# Altium integrated library ON Semi General Purpose Transistors.IntLib: 1679 symbols (part 18 of 36)
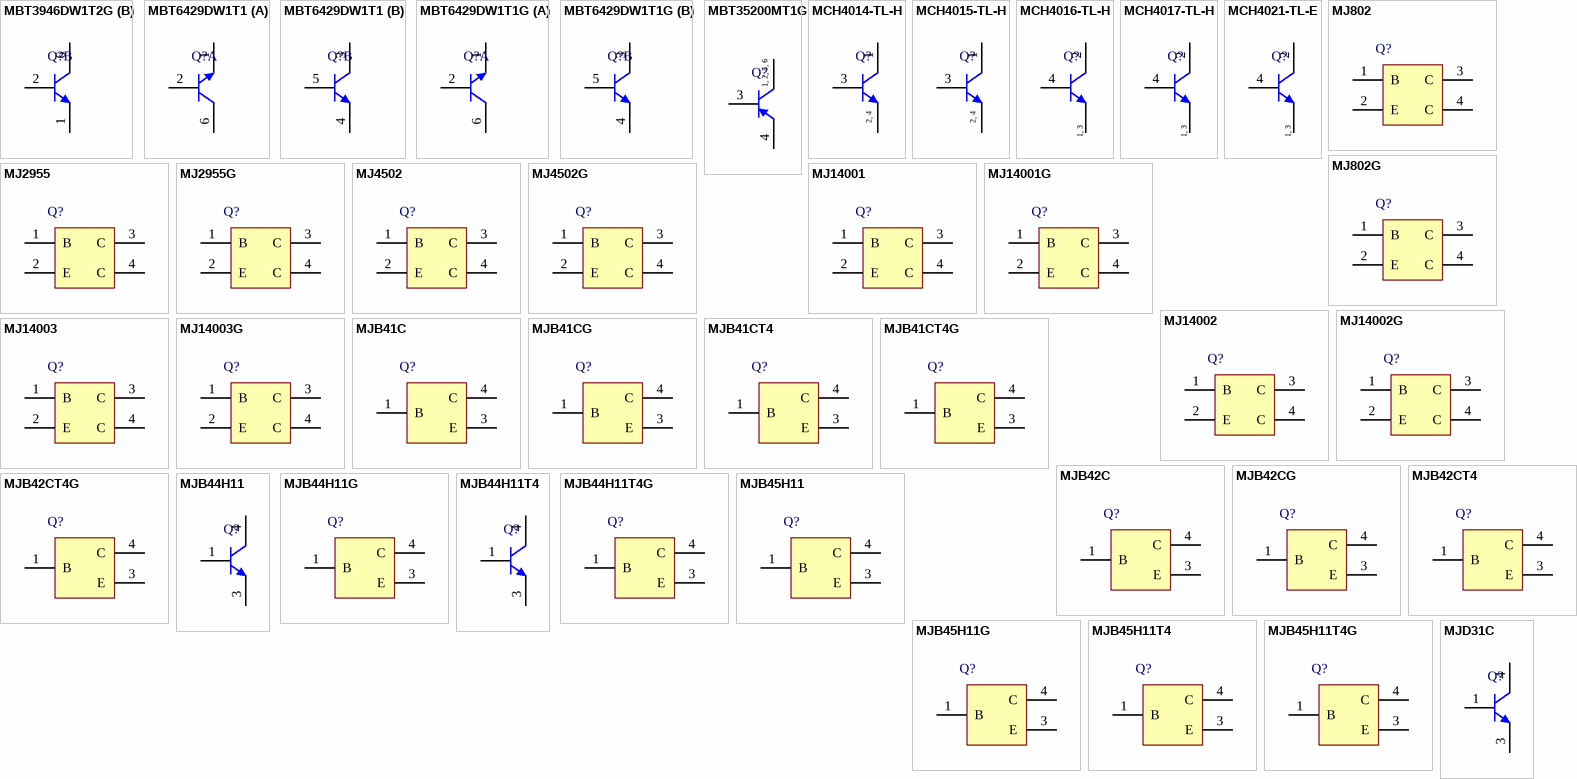
[diagram p62: symbols MBT3946DW1T2G to MJD31C]

## MCH4021-TL-E
designator Q?
RF Transistor, 8 V, 150 mA, fT=16 GHz, NPN Single, 4-Pin MCPH, Pb-Free, Tape and Reel; Manufacturer: On Semiconductor; PartNumber: MCH4021-TL-E; fT Min (MHz): 13000; IC Continuous (A): 0.15; PackageReference: MCPH-4; PackageDescription: 4-Pin Small Outline Transistor, Body 2 x 1.6 mm, Pitch 0.65 mm; Supplier 1: Digi-Key; Supplier Part Number 1: MCH4021-TL-E-ND; Supplier 2: Mouser; Supplier Part Number 2: 863-MCH4021-TL-E; Packing: Tape and Reel; Polarity: NPN; RoHS: TRUE; Mounting Technology: Surface Mount; ComponentLink1Description: Manufacturer URL; ComponentLink1URL: http://www.onsemi.com/; ComponentLink2Description: Datasheet; ComponentLink2URL: http://www.onsemi.com/pub_link/Collateral/MCH4021-D.PDF; ComponentLink3Description: Package Specification; ComponentLink3URL: http://www.onsemi.com/pub_link/Collateral/ENA0389-D.PDF
footprint ONSC-MCPH-4_V (SOT23, 4-Leads, Body 2x1.6mm, Pitch 0.65mm)
pins: 1 E, 2 C, 3 E, 4 B
text: 1, 3

## MJ802
designator Q?
High-Power NPN Silicon Transistor, 3-Pin TO-204, Tray; Manufacturer: On Semiconductor; PartNumber: MJ802; Note: 0; fT Min (MHz): 2; IC Continuous (A): 30; DatasheetVersion: Rev. 10; PackageVersion: Rev. Z, 05/1988; PackageReference: TO-204-3-1-07; PackageDescription: 2-Pin Transistor Outline, Body 39.37 x 26.67 mm, Pitch 10.92 mm; Packing: Tray; Polarity: NPN; RoHS: FALSE; Mounting Technology: Through Hole; ComponentLink1Description: Manufacturer URL; ComponentLink1URL: http://www.onsemi.com/; ComponentLink2Description: Datasheet; ComponentLink2URL: http://www.onsemi.com/pub_link/Collateral/MJ802-D.PDF; ComponentLink3Description: Package Specification; ComponentLink3URL: http://www.onsemi.com/pub_link/Collateral/1-07.PDF
footprint ONSC-TO-204-3-1-07 (TO-204, Pin Spacing 10.92mm, Lead Dia. 1.09 mm (max))
pins: 1 B, 2 E, 3 C, 4 C

## MJ802G
designator Q?
High-Power NPN Silicon Transistor, 3-Pin TO-204, Pb-Free, Tray; Manufacturer: On Semiconductor; PartNumber: MJ802G; fT Min (MHz): 2; IC Continuous (A): 30; DatasheetVersion: Rev. 10; PackageVersion: Rev. Z, 05/1988; PackageReference: TO-204-3-1-07; PackageDescription: 2-Pin Transistor Outline, Body 39.37 x 26.67 mm, Pitch 10.92 mm; Supplier 1: Digi-Key; Supplier Part Number 1: MJ802GOS-ND; Supplier 2: Farnell; Supplier Part Number 2: 1125995; Supplier 3: Newark; Supplier Part Number 3: 26K4528; Supplier 4: Mouser; Supplier Part Number 4: 863-MJ802G; Packing: Tray; Polarity: NPN; RoHS: TRUE; Mounting Technology: Through Hole; ComponentLink1Description: Manufacturer URL; ComponentLink1URL: http://www.onsemi.com/; ComponentLink2Description: Datasheet; ComponentLink2URL: http://www.onsemi.com/pub_link/Collateral/MJ802-D.PDF; ComponentLink3Description: Package Specification; ComponentLink3URL: http://www.onsemi.com/pub_link/Collateral/1-07.PDF
footprint ONSC-TO-204-3-1-07 (TO-204, Pin Spacing 10.92mm, Lead Dia. 1.09 mm (max))
pins: 1 B, 2 E, 3 C, 4 C

## MJ2955
designator Q?
Complementary Silicon Power Transistor, 3-Pin TO-204, Tray; Manufacturer: On Semiconductor; PartNumber: MJ2955; Note: 0; fT Min (MHz): 2.5; IC Continuous (A): 15; Polarity: PNP; DatasheetVersion: Rev. 6; PackageVersion: Rev. Z, 05/1988; PackageReference: TO-204-3-1-07; PackageDescription: 2-Pin Transistor Outline, Body 39.37 x 26.67 mm, Pitch 10.92 mm; Packing: Tray; RoHS: FALSE; Mounting Technology: Through Hole; ComponentLink1Description: Manufacturer URL; ComponentLink1URL: http://www.onsemi.com/; ComponentLink2Description: Datasheet; ComponentLink2URL: http://www.onsemi.com/pub_link/Collateral/2N3055-D.PDF; ComponentLink3Description: Package Specification; ComponentLink3URL: http://www.onsemi.com/pub_link/Collateral/1-07.PDF
footprint ONSC-TO-204-3-1-07 (TO-204, Pin Spacing 10.92mm, Lead Dia. 1.09 mm (max))
pins: 1 B, 2 E, 3 C, 4 C

## MJ2955G
designator Q?
Complementary Silicon Power Transistor, 3-Pin TO-204, Pb-Free, Tray; Manufacturer: On Semiconductor; PartNumber: MJ2955G; fT Min (MHz): 2.5; IC Continuous (A): 15; Polarity: PNP; DatasheetVersion: Rev. 6; PackageVersion: Rev. Z, 05/1988; PackageReference: TO-204-3-1-07; PackageDescription: 2-Pin Transistor Outline, Body 39.37 x 26.67 mm, Pitch 10.92 mm; Supplier 1: Digi-Key; Supplier Part Number 1: MJ2955GOS-ND; Supplier 2: Farnell; Supplier Part Number 2: 1125993; Supplier 3: Newark; Supplier Part Number 3: 26K4526; Supplier 4: Mouser; Supplier Part Number 4: 863-MJ2955G; Packing: Tray; RoHS: TRUE; Mounting Technology: Through Hole; ComponentLink1Description: Manufacturer URL; ComponentLink1URL: http://www.onsemi.com/; ComponentLink2Description: Datasheet; ComponentLink2URL: http://www.onsemi.com/pub_link/Collateral/2N3055-D.PDF; ComponentLink3Description: Package Specification; ComponentLink3URL: http://www.onsemi.com/pub_link/Collateral/1-07.PDF
footprint ONSC-TO-204-3-1-07 (TO-204, Pin Spacing 10.92mm, Lead Dia. 1.09 mm (max))
pins: 1 B, 2 E, 3 C, 4 C

## MJ4502
designator Q?
High-Power PNP Silicon Transistor, 3-Pin TO-204, Tray; Manufacturer: On Semiconductor; PartNumber: MJ4502; Note: 0; fT Min (MHz): 2; IC Continuous (A): 30; DatasheetVersion: Rev. 12; PackageVersion: Rev. Z, 05/1988; PackageReference: TO-204-3-1-07; PackageDescription: 2-Pin Transistor Outline, Body 39.37 x 26.67 mm, Pitch 10.92 mm; Packing: Tray; Polarity: PNP; RoHS: FALSE; Mounting Technology: Through Hole; ComponentLink1Description: Manufacturer URL; ComponentLink1URL: http://www.onsemi.com/; ComponentLink2Description: Datasheet; ComponentLink2URL: http://www.onsemi.com/pub_link/Collateral/MJ4502-D.PDF; ComponentLink3Description: Package Specification; ComponentLink3URL: http://www.onsemi.com/pub_link/Collateral/1-07.PDF
footprint ONSC-TO-204-3-1-07 (TO-204, Pin Spacing 10.92mm, Lead Dia. 1.09 mm (max))
pins: 1 B, 2 E, 3 C, 4 C

## MJ4502G
designator Q?
High-Power PNP Silicon Transistor, 3-Pin TO-204, Pb-Free, Tray; Manufacturer: On Semiconductor; PartNumber: MJ4502G; fT Min (MHz): 2; IC Continuous (A): 30; DatasheetVersion: Rev. 12; PackageVersion: Rev. Z, 05/1988; PackageReference: TO-204-3-1-07; PackageDescription: 2-Pin Transistor Outline, Body 39.37 x 26.67 mm, Pitch 10.92 mm; Supplier 1: Digi-Key; Supplier Part Number 1: MJ4502GOS-ND; Supplier 2: Newark; Supplier Part Number 2: 26K4527; Supplier 3: Mouser; Supplier Part Number 3: 863-MJ4502G; Packing: Tray; Polarity: PNP; RoHS: TRUE; Mounting Technology: Through Hole; ComponentLink1Description: Manufacturer URL; ComponentLink1URL: http://www.onsemi.com/; ComponentLink2Description: Datasheet; ComponentLink2URL: http://www.onsemi.com/pub_link/Collateral/MJ4502-D.PDF; ComponentLink3Description: Package Specification; ComponentLink3URL: http://www.onsemi.com/pub_link/Collateral/1-07.PDF
footprint ONSC-TO-204-3-1-07 (TO-204, Pin Spacing 10.92mm, Lead Dia. 1.09 mm (max))
pins: 1 B, 2 E, 3 C, 4 C

## MJ14001
designator Q?
High-Current Complementary Silicon Power Transistor, 3-Pin TO-204, Tray; Manufacturer: On Semiconductor; PartNumber: MJ14001; IC Continuous (A): 60; Polarity: PNP; DatasheetVersion: Rev. 6; PackageVersion: Rev. K, 02/2000; PackageReference: TO-204-3-197A-05; PackageDescription: 2-Pin Transistor Outline, Body 38.86 x 25.91 mm, Pitch 10.92 mm; Supplier 1: Mouser; Supplier Part Number 1: 863-MJ14001; Packing: Tray; RoHS: FALSE; Mounting Technology: Through Hole; ComponentLink1Description: Manufacturer URL; ComponentLink1URL: http://www.onsemi.com/; ComponentLink2Description: Datasheet; ComponentLink2URL: http://www.onsemi.com/pub_link/Collateral/MJ14001-D.PDF; ComponentLink3Description: Package Specification; ComponentLink3URL: http://www.onsemi.com/pub_link/Collateral/197A-05.PDF
footprint ONSC-TO-204-3-197A-05 (TO-204, Pin Spacing 10.92 mm, Lead Dia. 1.6 mm (max))
pins: 1 B, 2 E, 3 C, 4 C

## MJ14001G
designator Q?
High-Current Complementary Silicon Power Transistor, 3-Pin TO-204, Pb-Free, Tray; Manufacturer: On Semiconductor; PartNumber: MJ14001G; IC Continuous (A): 60; Polarity: PNP; DatasheetVersion: Rev. 6; PackageVersion: Rev. K, 02/2000; PackageReference: TO-204-3-197A-05; PackageDescription: 2-Pin Transistor Outline, Body 38.86 x 25.91 mm, Pitch 10.92 mm; Supplier 1: Digi-Key; Supplier Part Number 1: MJ14001G-ND; Supplier 2: Newark; Supplier Part Number 2: 42K1314; Supplier 3: Mouser; Supplier Part Number 3: 863-MJ14001G; Packing: Tray; RoHS: TRUE; Mounting Technology: Through Hole; ComponentLink1Description: Manufacturer URL; ComponentLink1URL: http://www.onsemi.com/; ComponentLink2Description: Datasheet; ComponentLink2URL: http://www.onsemi.com/pub_link/Collateral/MJ14001-D.PDF; ComponentLink3Description: Package Specification; ComponentLink3URL: http://www.onsemi.com/pub_link/Collateral/197A-05.PDF
footprint ONSC-TO-204-3-197A-05 (TO-204, Pin Spacing 10.92 mm, Lead Dia. 1.6 mm (max))
pins: 1 B, 2 E, 3 C, 4 C

## MJ14002
designator Q?
High-Current Complementary Silicon Power Transistor, 3-Pin TO-204, Tray; Manufacturer: On Semiconductor; PartNumber: MJ14002; Note: 0; IC Continuous (A): 60; Polarity: NPN; DatasheetVersion: Rev. 6; PackageVersion: Rev. K, 02/2000; PackageReference: TO-204-3-197A-05; PackageDescription: 2-Pin Transistor Outline, Body 38.86 x 25.91 mm, Pitch 10.92 mm; Packing: Tray; RoHS: FALSE; Mounting Technology: Through Hole; ComponentLink1Description: Manufacturer URL; ComponentLink1URL: http://www.onsemi.com/; ComponentLink2Description: Datasheet; ComponentLink2URL: http://www.onsemi.com/pub_link/Collateral/MJ14001-D.PDF; ComponentLink3Description: Package Specification; ComponentLink3URL: http://www.onsemi.com/pub_link/Collateral/197A-05.PDF
footprint ONSC-TO-204-3-197A-05 (TO-204, Pin Spacing 10.92 mm, Lead Dia. 1.6 mm (max))
pins: 1 B, 2 E, 3 C, 4 C

## MJ14002G
designator Q?
High-Current Complementary Silicon Power Transistor, 3-Pin TO-204, Pb-Free, Tray; Manufacturer: On Semiconductor; PartNumber: MJ14002G; IC Continuous (A): 60; Polarity: NPN; DatasheetVersion: Rev. 6; PackageVersion: Rev. K, 02/2000; PackageReference: TO-204-3-197A-05; PackageDescription: 2-Pin Transistor Outline, Body 38.86 x 25.91 mm, Pitch 10.92 mm; Supplier 1: Digi-Key; Supplier Part Number 1: MJ14002GOS-ND; Supplier 2: Newark; Supplier Part Number 2: 26K4509; Supplier 3: Mouser; Supplier Part Number 3: 863-MJ14002G; Packing: Tray; RoHS: TRUE; Mounting Technology: Through Hole; ComponentLink1Description: Manufacturer URL; ComponentLink1URL: http://www.onsemi.com/; ComponentLink2Description: Datasheet; ComponentLink2URL: http://www.onsemi.com/pub_link/Collateral/MJ14001-D.PDF; ComponentLink3Description: Package Specification; ComponentLink3URL: http://www.onsemi.com/pub_link/Collateral/197A-05.PDF
footprint ONSC-TO-204-3-197A-05 (TO-204, Pin Spacing 10.92 mm, Lead Dia. 1.6 mm (max))
pins: 1 B, 2 E, 3 C, 4 C

## MJ14003
designator Q?
High-Current Complementary Silicon Power Transistor, 3-Pin TO-204, Tray; Manufacturer: On Semiconductor; PartNumber: MJ14003; IC Continuous (A): 60; Polarity: PNP; DatasheetVersion: Rev. 6; PackageVersion: Rev. K, 02/2000; PackageReference: TO-204-3-197A-05; PackageDescription: 2-Pin Transistor Outline, Body 38.86 x 25.91 mm, Pitch 10.92 mm; Supplier 1: Mouser; Supplier Part Number 1: 863-MJ14003; Packing: Tray; RoHS: FALSE; Mounting Technology: Through Hole; ComponentLink1Description: Manufacturer URL; ComponentLink1URL: http://www.onsemi.com/; ComponentLink2Description: Datasheet; ComponentLink2URL: http://www.onsemi.com/pub_link/Collateral/MJ14001-D.PDF; ComponentLink3Description: Package Specification; ComponentLink3URL: http://www.onsemi.com/pub_link/Collateral/197A-05.PDF
footprint ONSC-TO-204-3-197A-05 (TO-204, Pin Spacing 10.92 mm, Lead Dia. 1.6 mm (max))
pins: 1 B, 2 E, 3 C, 4 C

## MJ14003G
designator Q?
High-Current Complementary Silicon Power Transistor, 3-Pin TO-204, Pb-Free, Tray; Manufacturer: On Semiconductor; PartNumber: MJ14003G; IC Continuous (A): 60; Polarity: PNP; DatasheetVersion: Rev. 6; PackageVersion: Rev. K, 02/2000; PackageReference: TO-204-3-197A-05; PackageDescription: 2-Pin Transistor Outline, Body 38.86 x 25.91 mm, Pitch 10.92 mm; Supplier 1: Mouser; Supplier Part Number 1: 863-MJ14003G; Packing: Tray; RoHS: TRUE; Mounting Technology: Through Hole; ComponentLink1Description: Manufacturer URL; ComponentLink1URL: http://www.onsemi.com/; ComponentLink2Description: Datasheet; ComponentLink2URL: http://www.onsemi.com/pub_link/Collateral/MJ14001-D.PDF; ComponentLink3Description: Package Specification; ComponentLink3URL: http://www.onsemi.com/pub_link/Collateral/197A-05.PDF
footprint ONSC-TO-204-3-197A-05 (TO-204, Pin Spacing 10.92 mm, Lead Dia. 1.6 mm (max))
pins: 1 B, 2 E, 3 C, 4 C

## MJB41C
designator Q?
Complementary Silicon Plastic Power Transistor, 3-Pin D2PAK, Tube; Manufacturer: On Semiconductor; PartNumber: MJB41C; fT Min (MHz): 3; IC Continuous (A): 6; Polarity: NPN; DatasheetVersion: Rev. 4; PackageVersion: Rev. K, 09/2008; PackageReference: D2PAK-3-418B-04; PackageDescription: 3-Pin Flange Mount, Body 9.145 x 9.97 mm, Pitch 2.54 mm; Supplier 1: Digi-Key; Supplier Part Number 1: MJB41COS-ND; Packing: Tube; RoHS: FALSE; Mounting Technology: Surface Mount; ComponentLink1Description: Manufacturer URL; ComponentLink1URL: http://www.onsemi.com/; ComponentLink2Description: Datasheet; ComponentLink2URL: http://www.onsemi.com/pub_link/Collateral/MJB41C-D.PDF; ComponentLink3Description: Package Specification; ComponentLink3URL: http://www.onsemi.com/pub_link/Collateral/418B-04.PDF
footprint ONSC-D2PAK-3-418B-04_V (DPAK, 3-Leads, Body 9.97x9.145mm, Pitch 2.54mm)
pins: 1 B, 3 E, 4 C

## MJB41CG
designator Q?
Complementary Silicon Plastic Power Transistor, 3-Pin D2PAK, Pb-Free, Tube; Manufacturer: On Semiconductor; PartNumber: MJB41CG; fT Min (MHz): 3; IC Continuous (A): 6; Polarity: NPN; DatasheetVersion: Rev. 4; PackageVersion: Rev. K, 09/2008; PackageReference: D2PAK-3-418B-04; PackageDescription: 3-Pin Flange Mount, Body 9.145 x 9.97 mm, Pitch 2.54 mm; Supplier 1: Digi-Key; Supplier Part Number 1: MJB41CGOS-ND; Supplier 2: Farnell; Supplier Part Number 2: 1705814; Supplier 3: Newark; Supplier Part Number 3: 26K4436; Supplier 4: Mouser; Supplier Part Number 4: 863-MJB41CG; Packing: Tube; RoHS: TRUE; Mounting Technology: Surface Mount; ComponentLink1Description: Manufacturer URL; ComponentLink1URL: http://www.onsemi.com/; ComponentLink2Description: Datasheet; ComponentLink2URL: http://www.onsemi.com/pub_link/Collateral/MJB41C-D.PDF; ComponentLink3Description: Package Specification; ComponentLink3URL: http://www.onsemi.com/pub_link/Collateral/418B-04.PDF
footprint ONSC-D2PAK-3-418B-04_V (DPAK, 3-Leads, Body 9.97x9.145mm, Pitch 2.54mm)
pins: 1 B, 3 E, 4 C

## MJB41CT4
designator Q?
Complementary Silicon Plastic Power Transistor, 3-Pin D2PAK, Tape and Reel; Manufacturer: On Semiconductor; PartNumber: MJB41CT4; fT Min (MHz): 3; IC Continuous (A): 6; Polarity: NPN; DatasheetVersion: Rev. 4; PackageVersion: Rev. K, 09/2008; PackageReference: D2PAK-3-418B-04; PackageDescription: 3-Pin Flange Mount, Body 9.145 x 9.97 mm, Pitch 2.54 mm; Supplier 1: Digi-Key; Supplier Part Number 1: MJB41CT4-ND; Packing: Tape and Reel; RoHS: FALSE; Mounting Technology: Surface Mount; ComponentLink1Description: Manufacturer URL; ComponentLink1URL: http://www.onsemi.com/; ComponentLink2Description: Datasheet; ComponentLink2URL: http://www.onsemi.com/pub_link/Collateral/MJB41C-D.PDF; ComponentLink3Description: Package Specification; ComponentLink3URL: http://www.onsemi.com/pub_link/Collateral/418B-04.PDF
footprint ONSC-D2PAK-3-418B-04_V (DPAK, 3-Leads, Body 9.97x9.145mm, Pitch 2.54mm)
pins: 1 B, 3 E, 4 C

## MJB41CT4G
designator Q?
Complementary Silicon Plastic Power Transistor, 3-Pin D2PAK, Pb-Free, Tape and Reel; Manufacturer: On Semiconductor; PartNumber: MJB41CT4G; fT Min (MHz): 3; IC Continuous (A): 6; Polarity: NPN; DatasheetVersion: Rev. 4; PackageVersion: Rev. K, 09/2008; PackageReference: D2PAK-3-418B-04; PackageDescription: 3-Pin Flange Mount, Body 9.145 x 9.97 mm, Pitch 2.54 mm; Supplier 1: Digi-Key; Supplier Part Number 1: MJB41CT4GOSTR-ND; Supplier 2: Digi-Key; Supplier Part Number 2: MJB41CT4GOSCT-ND; Supplier 3: Digi-Key; Supplier Part Number 3: MJB41CT4GOSDKR-ND; Supplier 4: Farnell; Supplier Part Number 4: 1899518; Supplier 5: Newark; Supplier Part Number 5: 09R9429; Supplier 6: Mouser; Supplier Part Number 6: 863-MJB41CT4G; Packing: Tape and Reel; RoHS: TRUE; Mounting Technology: Surface Mount; ComponentLink1Description: Manufacturer URL; ComponentLink1URL: http://www.onsemi.com/; ComponentLink2Description: Datasheet; ComponentLink2URL: http://www.onsemi.com/pub_link/Collateral/MJB41C-D.PDF; ComponentLink3Description: Package Specification; ComponentLink3URL: http://www.onsemi.com/pub_link/Collateral/418B-04.PDF
footprint ONSC-D2PAK-3-418B-04_V (DPAK, 3-Leads, Body 9.97x9.145mm, Pitch 2.54mm)
pins: 1 B, 3 E, 4 C

## MJB42C
designator Q?
Complementary Silicon Plastic Power Transistor, 3-Pin D2PAK, Tube; Manufacturer: On Semiconductor; PartNumber: MJB42C; fT Min (MHz): 3; IC Continuous (A): 6; Polarity: PNP; DatasheetVersion: Rev. 4; PackageVersion: Rev. K, 09/2008; PackageReference: D2PAK-3-418B-04; PackageDescription: 3-Pin Flange Mount, Body 9.145 x 9.97 mm, Pitch 2.54 mm; Supplier 1: Mouser; Supplier Part Number 1: 863-MJB42C; Packing: Tube; RoHS: FALSE; Mounting Technology: Surface Mount; ComponentLink1Description: Manufacturer URL; ComponentLink1URL: http://www.onsemi.com/; ComponentLink2Description: Datasheet; ComponentLink2URL: http://www.onsemi.com/pub_link/Collateral/MJB41C-D.PDF; ComponentLink3Description: Package Specification; ComponentLink3URL: http://www.onsemi.com/pub_link/Collateral/418B-04.PDF
footprint ONSC-D2PAK-3-418B-04_V (DPAK, 3-Leads, Body 9.97x9.145mm, Pitch 2.54mm)
pins: 1 B, 3 E, 4 C

## MJB42CG
designator Q?
Complementary Silicon Plastic Power Transistor, 3-Pin D2PAK, Pb-Free, Tube; Manufacturer: On Semiconductor; PartNumber: MJB42CG; fT Min (MHz): 3; IC Continuous (A): 6; Polarity: PNP; DatasheetVersion: Rev. 4; PackageVersion: Rev. K, 09/2008; PackageReference: D2PAK-3-418B-04; PackageDescription: 3-Pin Flange Mount, Body 9.145 x 9.97 mm, Pitch 2.54 mm; Supplier 1: Mouser; Supplier Part Number 1: 863-MJB42CG; Packing: Tube; RoHS: TRUE; Mounting Technology: Surface Mount; ComponentLink1Description: Manufacturer URL; ComponentLink1URL: http://www.onsemi.com/; ComponentLink2Description: Datasheet; ComponentLink2URL: http://www.onsemi.com/pub_link/Collateral/MJB41C-D.PDF; ComponentLink3Description: Package Specification; ComponentLink3URL: http://www.onsemi.com/pub_link/Collateral/418B-04.PDF
footprint ONSC-D2PAK-3-418B-04_V (DPAK, 3-Leads, Body 9.97x9.145mm, Pitch 2.54mm)
pins: 1 B, 3 E, 4 C

## MJB42CT4
designator Q?
Complementary Silicon Plastic Power Transistor, 3-Pin D2PAK, Tape and Reel; Manufacturer: On Semiconductor; PartNumber: MJB42CT4; Note: 0; fT Min (MHz): 3; IC Continuous (A): 6; Polarity: PNP; DatasheetVersion: Rev. 4; PackageVersion: Rev. K, 09/2008; PackageReference: D2PAK-3-418B-04; PackageDescription: 3-Pin Flange Mount, Body 9.145 x 9.97 mm, Pitch 2.54 mm; Packing: Tape and Reel; RoHS: FALSE; Mounting Technology: Surface Mount; ComponentLink1Description: Manufacturer URL; ComponentLink1URL: http://www.onsemi.com/; ComponentLink2Description: Datasheet; ComponentLink2URL: http://www.onsemi.com/pub_link/Collateral/MJB41C-D.PDF; ComponentLink3Description: Package Specification; ComponentLink3URL: http://www.onsemi.com/pub_link/Collateral/418B-04.PDF
footprint ONSC-D2PAK-3-418B-04_V (DPAK, 3-Leads, Body 9.97x9.145mm, Pitch 2.54mm)
pins: 1 B, 3 E, 4 C

## MJB42CT4G
designator Q?
Complementary Silicon Plastic Power Transistor, 3-Pin D2PAK, Pb-Free, Tape and Reel; Manufacturer: On Semiconductor; PartNumber: MJB42CT4G; fT Min (MHz): 3; IC Continuous (A): 6; Polarity: PNP; DatasheetVersion: Rev. 4; PackageVersion: Rev. K, 09/2008; PackageReference: D2PAK-3-418B-04; PackageDescription: 3-Pin Flange Mount, Body 9.145 x 9.97 mm, Pitch 2.54 mm; Supplier 1: Digi-Key; Supplier Part Number 1: MJB42CT4GOSTR-ND; Supplier 2: Digi-Key; Supplier Part Number 2: MJB42CT4GOSCT-ND; Supplier 3: Digi-Key; Supplier Part Number 3: MJB42CT4GOSDKR-ND; Supplier 4: Farnell; Supplier Part Number 4: 1899519; Supplier 5: Newark; Supplier Part Number 5: 42K1266; Supplier 6: Newark; Supplier Part Number 6: 09R9430; Supplier 7: Mouser; Supplier Part Number 7: 863-MJB42CT4G; Packing: Tape and Reel; RoHS: TRUE; Mounting Technology: Surface Mount; ComponentLink1Description: Manufacturer URL; ComponentLink1URL: http://www.onsemi.com/; ComponentLink2Description: Datasheet; ComponentLink2URL: http://www.onsemi.com/pub_link/Collateral/MJB41C-D.PDF; ComponentLink3Description: Package Specification; ComponentLink3URL: http://www.onsemi.com/pub_link/Collateral/418B-04.PDF
footprint ONSC-D2PAK-3-418B-04_V (DPAK, 3-Leads, Body 9.97x9.145mm, Pitch 2.54mm)
pins: 1 B, 3 E, 4 C

## MJB44H11
designator Q?
Complementary Power Transistor, 3-Pin D2PAK, Tube; Manufacturer: On Semiconductor; PartNumber: MJB44H11; IC Continuous (A): 10; Polarity: NPN; DatasheetVersion: Rev. 5; PackageVersion: Rev. K, 09/2008; PackageReference: D2PAK-3-418B-04; PackageDescription: 3-Pin Flange Mount, Body 9.145 x 9.97 mm, Pitch 2.54 mm; Supplier 1: Digi-Key; Supplier Part Number 1: MJB44H11OS-ND; Packing: Tube; RoHS: FALSE; Mounting Technology: Surface Mount; ComponentLink1Description: Manufacturer URL; ComponentLink1URL: http://www.onsemi.com/; ComponentLink2Description: Datasheet; ComponentLink2URL: http://www.onsemi.com/pub_link/Collateral/MJB44H11-D.PDF; ComponentLink3Description: Package Specification; ComponentLink3URL: http://www.onsemi.com/pub_link/Collateral/418B-04.PDF
footprint ONSC-D2PAK-3-418B-04_V (DPAK, 3-Leads, Body 9.97x9.145mm, Pitch 2.54mm)
pins: 1 B, 3 E, 4 C

## MJB44H11G
designator Q?
Complementary Power Transistor, 3-Pin D2PAK, Pb-Free, Tube; Manufacturer: On Semiconductor; PartNumber: MJB44H11G; IC Continuous (A): 10; Polarity: NPN; DatasheetVersion: Rev. 5; PackageVersion: Rev. K, 09/2008; PackageReference: D2PAK-3-418B-04; PackageDescription: 3-Pin Flange Mount, Body 9.145 x 9.97 mm, Pitch 2.54 mm; Supplier 1: Digi-Key; Supplier Part Number 1: MJB44H11GOS-ND; Supplier 2: Farnell; Supplier Part Number 2: 1705896; Supplier 3: Newark; Supplier Part Number 3: 42K1267; Supplier 4: Mouser; Supplier Part Number 4: 863-MJB44H11G; Packing: Tube; RoHS: TRUE; Mounting Technology: Surface Mount; ComponentLink1Description: Manufacturer URL; ComponentLink1URL: http://www.onsemi.com/; ComponentLink2Description: Datasheet; ComponentLink2URL: http://www.onsemi.com/pub_link/Collateral/MJB44H11-D.PDF; ComponentLink3Description: Package Specification; ComponentLink3URL: http://www.onsemi.com/pub_link/Collateral/418B-04.PDF
footprint ONSC-D2PAK-3-418B-04_V (DPAK, 3-Leads, Body 9.97x9.145mm, Pitch 2.54mm)
pins: 1 B, 3 E, 4 C

## MJB44H11T4
designator Q?
Complementary Power Transistor, 3-Pin D2PAK, Tape and Reel; Manufacturer: On Semiconductor; PartNumber: MJB44H11T4; Note: 0; IC Continuous (A): 10; Polarity: NPN; DatasheetVersion: Rev. 5; PackageVersion: Rev. K, 09/2008; PackageReference: D2PAK-3-418B-04; PackageDescription: 3-Pin Flange Mount, Body 9.145 x 9.97 mm, Pitch 2.54 mm; Packing: Tape and Reel; RoHS: FALSE; Mounting Technology: Surface Mount; ComponentLink1Description: Manufacturer URL; ComponentLink1URL: http://www.onsemi.com/; ComponentLink2Description: Datasheet; ComponentLink2URL: http://www.onsemi.com/pub_link/Collateral/MJB44H11-D.PDF; ComponentLink3Description: Package Specification; ComponentLink3URL: http://www.onsemi.com/pub_link/Collateral/418B-04.PDF
footprint ONSC-D2PAK-3-418B-04_V (DPAK, 3-Leads, Body 9.97x9.145mm, Pitch 2.54mm)
pins: 1 B, 3 E, 4 C

## MJB44H11T4G
designator Q?
Complementary Power Transistor, 3-Pin D2PAK, Pb-Free, Tape and Reel; Manufacturer: On Semiconductor; PartNumber: MJB44H11T4G; IC Continuous (A): 10; Polarity: NPN; DatasheetVersion: Rev. 5; PackageVersion: Rev. K, 09/2008; PackageReference: D2PAK-3-418B-04; PackageDescription: 3-Pin Flange Mount, Body 9.145 x 9.97 mm, Pitch 2.54 mm; Supplier 1: Digi-Key; Supplier Part Number 1: MJB44H11T4GOSTR-ND; Supplier 2: Digi-Key; Supplier Part Number 2: MJB44H11T4GOSCT-ND; Supplier 3: Digi-Key; Supplier Part Number 3: MJB44H11T4GOSDKR-ND; Supplier 4: Farnell; Supplier Part Number 4: 1899520; Supplier 5: Newark; Supplier Part Number 5: 26K4437; Supplier 6: Newark; Supplier Part Number 6: 09R9431; Supplier 7: Mouser; Supplier Part Number 7: 863-MJB44H11T4G; Packing: Tape and Reel; RoHS: TRUE; Mounting Technology: Surface Mount; ComponentLink1Description: Manufacturer URL; ComponentLink1URL: http://www.onsemi.com/; ComponentLink2Description: Datasheet; ComponentLink2URL: http://www.onsemi.com/pub_link/Collateral/MJB44H11-D.PDF; ComponentLink3Description: Package Specification; ComponentLink3URL: http://www.onsemi.com/pub_link/Collateral/418B-04.PDF
footprint ONSC-D2PAK-3-418B-04_V (DPAK, 3-Leads, Body 9.97x9.145mm, Pitch 2.54mm)
pins: 1 B, 3 E, 4 C

## MJB45H11
designator Q?
Complementary Power Transistor, 3-Pin D2PAK, Tube; Manufacturer: On Semiconductor; PartNumber: MJB45H11; IC Continuous (A): 10; Polarity: PNP; DatasheetVersion: Rev. 5; PackageVersion: Rev. K, 09/2008; PackageReference: D2PAK-3-418B-04; PackageDescription: 3-Pin Flange Mount, Body 9.145 x 9.97 mm, Pitch 2.54 mm; Supplier 1: Digi-Key; Supplier Part Number 1: MJB45H11-ND; Packing: Tube; RoHS: FALSE; Mounting Technology: Surface Mount; ComponentLink1Description: Manufacturer URL; ComponentLink1URL: http://www.onsemi.com/; ComponentLink2Description: Datasheet; ComponentLink2URL: http://www.onsemi.com/pub_link/Collateral/MJB44H11-D.PDF; ComponentLink3Description: Package Specification; ComponentLink3URL: http://www.onsemi.com/pub_link/Collateral/418B-04.PDF
footprint ONSC-D2PAK-3-418B-04_V (DPAK, 3-Leads, Body 9.97x9.145mm, Pitch 2.54mm)
pins: 1 B, 3 E, 4 C

## MJB45H11G
designator Q?
Complementary Power Transistor, 3-Pin D2PAK, Pb-Free, Tube; Manufacturer: On Semiconductor; PartNumber: MJB45H11G; IC Continuous (A): 10; Polarity: PNP; DatasheetVersion: Rev. 5; PackageVersion: Rev. K, 09/2008; PackageReference: D2PAK-3-418B-04; PackageDescription: 3-Pin Flange Mount, Body 9.145 x 9.97 mm, Pitch 2.54 mm; Supplier 1: Digi-Key; Supplier Part Number 1: MJB45H11GOS-ND; Supplier 2: Farnell; Supplier Part Number 2: 1706050; Supplier 3: Newark; Supplier Part Number 3: 98H0733; Supplier 4: Mouser; Supplier Part Number 4: 863-MJB45H11G; Packing: Tube; RoHS: TRUE; Mounting Technology: Surface Mount; ComponentLink1Description: Manufacturer URL; ComponentLink1URL: http://www.onsemi.com/; ComponentLink2Description: Datasheet; ComponentLink2URL: http://www.onsemi.com/pub_link/Collateral/MJB44H11-D.PDF; ComponentLink3Description: Package Specification; ComponentLink3URL: http://www.onsemi.com/pub_link/Collateral/418B-04.PDF
footprint ONSC-D2PAK-3-418B-04_V (DPAK, 3-Leads, Body 9.97x9.145mm, Pitch 2.54mm)
pins: 1 B, 3 E, 4 C

## MJB45H11T4
designator Q?
Complementary Power Transistor, 3-Pin D2PAK, Tape and Reel; Manufacturer: On Semiconductor; PartNumber: MJB45H11T4; Note: 0; IC Continuous (A): 10; Polarity: PNP; DatasheetVersion: Rev. 5; PackageVersion: Rev. K, 09/2008; PackageReference: D2PAK-3-418B-04; PackageDescription: 3-Pin Flange Mount, Body 9.145 x 9.97 mm, Pitch 2.54 mm; Packing: Tape and Reel; RoHS: FALSE; Mounting Technology: Surface Mount; ComponentLink1Description: Manufacturer URL; ComponentLink1URL: http://www.onsemi.com/; ComponentLink2Description: Datasheet; ComponentLink2URL: http://www.onsemi.com/pub_link/Collateral/MJB44H11-D.PDF; ComponentLink3Description: Package Specification; ComponentLink3URL: http://www.onsemi.com/pub_link/Collateral/418B-04.PDF
footprint ONSC-D2PAK-3-418B-04_V (DPAK, 3-Leads, Body 9.97x9.145mm, Pitch 2.54mm)
pins: 1 B, 3 E, 4 C

## MJB45H11T4G
designator Q?
Complementary Power Transistor, 3-Pin D2PAK, Pb-Free, Tape and Reel; Manufacturer: On Semiconductor; PartNumber: MJB45H11T4G; IC Continuous (A): 10; Polarity: PNP; DatasheetVersion: Rev. 5; PackageVersion: Rev. K, 09/2008; PackageReference: D2PAK-3-418B-04; PackageDescription: 3-Pin Flange Mount, Body 9.145 x 9.97 mm, Pitch 2.54 mm; Supplier 1: Digi-Key; Supplier Part Number 1: MJB45H11T4GOSTR-ND; Supplier 2: Digi-Key; Supplier Part Number 2: MJB45H11T4GOSCT-ND; Supplier 3: Digi-Key; Supplier Part Number 3: MJB45H11T4GOSDKR-ND; Supplier 4: Farnell; Supplier Part Number 4: 1861212; Supplier 5: Newark; Supplier Part Number 5: 09R9432; Supplier 6: Mouser; Supplier Part Number 6: 863-MJB45H11T4G; Packing: Tape and Reel; RoHS: TRUE; Mounting Technology: Surface Mount; ComponentLink1Description: Manufacturer URL; ComponentLink1URL: http://www.onsemi.com/; ComponentLink2Description: Datasheet; ComponentLink2URL: http://www.onsemi.com/pub_link/Collateral/MJB44H11-D.PDF; ComponentLink3Description: Package Specification; ComponentLink3URL: http://www.onsemi.com/pub_link/Collateral/418B-04.PDF
footprint ONSC-D2PAK-3-418B-04_V (DPAK, 3-Leads, Body 9.97x9.145mm, Pitch 2.54mm)
pins: 1 B, 3 E, 4 C

## MJD31C
designator Q?
Complementary Power Transistor, 3-Pin DPAK, Tube; Manufacturer: On Semiconductor; PartNumber: MJD31C; Note: 0; fT Min (MHz): 3; Polarity: NPN; DatasheetVersion: Rev. 13; PackageVersion: Rev. E, 02/2014; PackageReference: DPAK-3-369C-01; PackageDescription: 3-Pin Flange Mount, Body 6.54 x 6.095 mm, Pitch 2.29 mm; IC Continuous (A): 3; Packing: Tube; RoHS: FALSE; Mounting Technology: Surface Mount; ComponentLink1Description: Manufacturer URL; ComponentLink1URL: http://www.onsemi.com/; ComponentLink2Description: Datasheet; ComponentLink2URL: http://www.onsemi.cn/pub_link/Collateral/MJD31-D.PDF; ComponentLink3Description: Package Specification; ComponentLink3URL: http://www.onsemi.cn/pub_link/Collateral/369C.PDF
footprint ONSC-DPAK-3-369C-01_V (DPAK, 3-Leads, Body 6.54x6.095mm, Pitch 2.29mm)
pins: 1 B, 3 E, 4 C

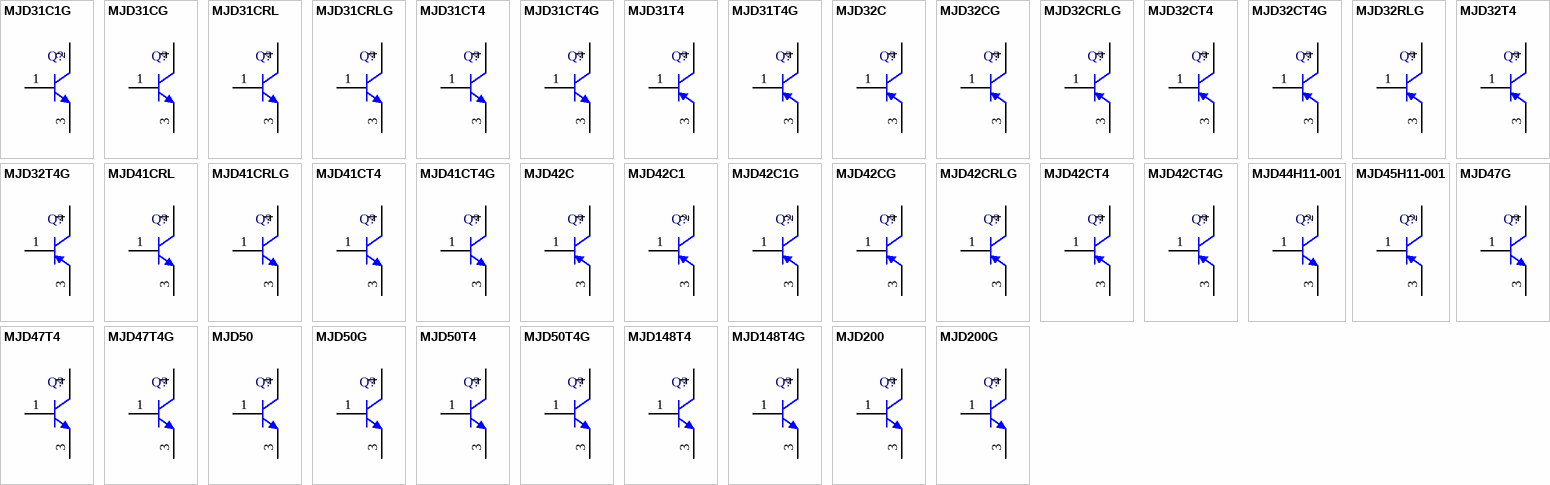
[diagram p23: symbols MJD31C1G to MJD200G]

## MJD31C1G
designator Q?
Complementary Power Transistor, 3-Pin IPAK, Pb-Free, Tube; Manufacturer: On Semiconductor; PartNumber: MJD31C1G; fT Min (MHz): 3; Polarity: NPN; DatasheetVersion: Rev. 13; PackageVersion: Rev. C, 12/2010; PackageReference: IPAK-3-369D-01; PackageDescription: 3-Pin Flange Mount, Vertical Straight Lead, Body 6.54 x 2.285 mm, Pitch 2.29 mm; Supplier 1: Digi-Key; Supplier Part Number 1: MJD31C1GOS-ND; Supplier 2: Farnell; Supplier Part Number 2: 2101376; Supplier 3: Newark; Supplier Part Number 3: 42K1277; Supplier 4: Mouser; Supplier Part Number 4: 863-MJD31C1G; IC Continuous (A): 3; Packing: Tube; RoHS: TRUE; Mounting Technology: Through Hole; Code_JEDEC: TO-251; ComponentLink1Description: Manufacturer URL; ComponentLink1URL: http://www.onsemi.com/; ComponentLink2Description: Datasheet; ComponentLink2URL: http://www.onsemi.cn/pub_link/Collateral/MJD31-D.PDF; ComponentLink3Description: Package Specification; ComponentLink3URL: http://www.onsemi.cn/pub_link/Collateral/369D.PDF
footprint ONSC-IPAK-3-369D-01 (FM, 3-Leads, Body 6.75x2.4mm, Pitch 2.29mm)
pins: 1 B, 2 C, 3 E

## MJD31CG
designator Q?
Complementary Power Transistor, 3-Pin DPAK, Pb-Free, Tube; Manufacturer: On Semiconductor; PartNumber: MJD31CG; fT Min (MHz): 3; Polarity: NPN; DatasheetVersion: Rev. 13; PackageVersion: Rev. E, 02/2014; PackageReference: DPAK-3-369C-01; PackageDescription: 3-Pin Flange Mount, Body 6.54 x 6.095 mm, Pitch 2.29 mm; Supplier 1: Digi-Key; Supplier Part Number 1: MJD31CGOS-ND; Supplier 2: Farnell; Supplier Part Number 2: 9557113; Supplier 3: Newark; Supplier Part Number 3: 98H0735; Supplier 4: Mouser; Supplier Part Number 4: 863-MJD31CG; IC Continuous (A): 3; Packing: Tube; RoHS: TRUE; Mounting Technology: Surface Mount; ComponentLink1Description: Manufacturer URL; ComponentLink1URL: http://www.onsemi.com/; ComponentLink2Description: Datasheet; ComponentLink2URL: http://www.onsemi.cn/pub_link/Collateral/MJD31-D.PDF; ComponentLink3Description: Package Specification; ComponentLink3URL: http://www.onsemi.cn/pub_link/Collateral/369C.PDF
footprint ONSC-DPAK-3-369C-01_V (DPAK, 3-Leads, Body 6.54x6.095mm, Pitch 2.29mm)
pins: 1 B, 3 E, 4 C

## MJD31CRL
designator Q?
Complementary Power Transistor, 3-Pin DPAK, Tape and Reel; Manufacturer: On Semiconductor; PartNumber: MJD31CRL; fT Min (MHz): 3; Polarity: NPN; DatasheetVersion: Rev. 13; PackageVersion: Rev. E, 02/2014; PackageReference: DPAK-3-369C-01; PackageDescription: 3-Pin Flange Mount, Body 6.54 x 6.095 mm, Pitch 2.29 mm; Supplier 1: Digi-Key; Supplier Part Number 1: MJD31CRL-ND; IC Continuous (A): 3; Packing: Tape and Reel; RoHS: FALSE; Mounting Technology: Surface Mount; ComponentLink1Description: Manufacturer URL; ComponentLink1URL: http://www.onsemi.com/; ComponentLink2Description: Datasheet; ComponentLink2URL: http://www.onsemi.cn/pub_link/Collateral/MJD31-D.PDF; ComponentLink3Description: Package Specification; ComponentLink3URL: http://www.onsemi.cn/pub_link/Collateral/369C.PDF
footprint ONSC-DPAK-3-369C-01_V (DPAK, 3-Leads, Body 6.54x6.095mm, Pitch 2.29mm)
pins: 1 B, 3 E, 4 C

## MJD31CRLG
designator Q?
Complementary Power Transistor, 3-Pin DPAK, Pb-Free, Tape and Reel; Manufacturer: On Semiconductor; PartNumber: MJD31CRLG; fT Min (MHz): 3; Polarity: NPN; DatasheetVersion: Rev. 13; PackageVersion: Rev. E, 02/2014; PackageReference: DPAK-3-369C-01; PackageDescription: 3-Pin Flange Mount, Body 6.54 x 6.095 mm, Pitch 2.29 mm; Supplier 1: Digi-Key; Supplier Part Number 1: MJD31CRLGOSTR-ND; Supplier 2: Digi-Key; Supplier Part Number 2: MJD31CRLGOSCT-ND; Supplier 3: Digi-Key; Supplier Part Number 3: MJD31CRLGOSDKR-ND; Supplier 4: Newark; Supplier Part Number 4: 71J5848; Supplier 5: Mouser; Supplier Part Number 5: 863-MJD31CRLG; IC Continuous (A): 3; Packing: Tape and Reel; RoHS: TRUE; Mounting Technology: Surface Mount; ComponentLink1Description: Manufacturer URL; ComponentLink1URL: http://www.onsemi.com/; ComponentLink2Description: Datasheet; ComponentLink2URL: http://www.onsemi.cn/pub_link/Collateral/MJD31-D.PDF; ComponentLink3Description: Package Specification; ComponentLink3URL: http://www.onsemi.cn/pub_link/Collateral/369C.PDF
footprint ONSC-DPAK-3-369C-01_V (DPAK, 3-Leads, Body 6.54x6.095mm, Pitch 2.29mm)
pins: 1 B, 3 E, 4 C

## MJD31CT4
designator Q?
Complementary Power Transistor, 3-Pin DPAK, Tape and Reel; Manufacturer: On Semiconductor; PartNumber: MJD31CT4; fT Min (MHz): 3; Polarity: NPN; DatasheetVersion: Rev. 13; PackageVersion: Rev. E, 02/2014; PackageReference: DPAK-3-369C-01; PackageDescription: 3-Pin Flange Mount, Body 6.54 x 6.095 mm, Pitch 2.29 mm; Supplier 1: Digi-Key; Supplier Part Number 1: MJD31CT4OSCT-ND; Supplier 2: Digi-Key; Supplier Part Number 2: MJD31CT4OSDKR-ND; IC Continuous (A): 3; Packing: Tape and Reel; RoHS: FALSE; Mounting Technology: Surface Mount; ComponentLink1Description: Manufacturer URL; ComponentLink1URL: http://www.onsemi.com/; ComponentLink2Description: Datasheet; ComponentLink2URL: http://www.onsemi.cn/pub_link/Collateral/MJD31-D.PDF; ComponentLink3Description: Package Specification; ComponentLink3URL: http://www.onsemi.cn/pub_link/Collateral/369C.PDF
footprint ONSC-DPAK-3-369C-01_V (DPAK, 3-Leads, Body 6.54x6.095mm, Pitch 2.29mm)
pins: 1 B, 3 E, 4 C

## MJD31CT4G
designator Q?
Complementary Power Transistor, 3-Pin DPAK, Pb-Free, Tape and Reel; Manufacturer: On Semiconductor; PartNumber: MJD31CT4G; fT Min (MHz): 3; Polarity: NPN; DatasheetVersion: Rev. 13; PackageVersion: Rev. E, 02/2014; PackageReference: DPAK-3-369C-01; PackageDescription: 3-Pin Flange Mount, Body 6.54 x 6.095 mm, Pitch 2.29 mm; Supplier 1: Digi-Key; Supplier Part Number 1: MJD31CT4GOSTR-ND; Supplier 2: Digi-Key; Supplier Part Number 2: MJD31CT4GOSCT-ND; Supplier 3: Digi-Key; Supplier Part Number 3: MJD31CT4GOSDKR-ND; Supplier 4: Farnell; Supplier Part Number 4: 2317563; Supplier 5: Newark; Supplier Part Number 5: 54T9964; Supplier 6: Newark; Supplier Part Number 6: 90W4489; Supplier 7: Newark; Supplier Part Number 7: 88H4767; Supplier 8: Mouser; Supplier Part Number 8: 863-MJD31CT4G; IC Continuous (A): 3; Packing: Tape and Reel; RoHS: TRUE; Mounting Technology: Surface Mount; ComponentLink1Description: Manufacturer URL; ComponentLink1URL: http://www.onsemi.com/; ComponentLink2Description: Datasheet; ComponentLink2URL: http://www.onsemi.cn/pub_link/Collateral/MJD31-D.PDF; ComponentLink3Description: Package Specification; ComponentLink3URL: http://www.onsemi.cn/pub_link/Collateral/369C.PDF
footprint ONSC-DPAK-3-369C-01_V (DPAK, 3-Leads, Body 6.54x6.095mm, Pitch 2.29mm)
pins: 1 B, 3 E, 4 C

## MJD31T4
designator Q?
Complementary Power Transistor, 3-Pin DPAK, Tape and Reel; Manufacturer: On Semiconductor; PartNumber: MJD31T4; Note: 0; fT Min (MHz): 3; Polarity: NPN; DatasheetVersion: Rev. 13; PackageVersion: Rev. E, 02/2014; PackageReference: DPAK-3-369C-01; PackageDescription: 3-Pin Flange Mount, Body 6.54 x 6.095 mm, Pitch 2.29 mm; IC Continuous (A): 3; Packing: Tape and Reel; RoHS: FALSE; Mounting Technology: Surface Mount; ComponentLink1Description: Manufacturer URL; ComponentLink1URL: http://www.onsemi.com/; ComponentLink2Description: Datasheet; ComponentLink2URL: http://www.onsemi.cn/pub_link/Collateral/MJD31-D.PDF; ComponentLink3Description: Package Specification; ComponentLink3URL: http://www.onsemi.cn/pub_link/Collateral/369C.PDF
footprint ONSC-DPAK-3-369C-01_V (DPAK, 3-Leads, Body 6.54x6.095mm, Pitch 2.29mm)
pins: 1 B, 3 E, 4 C

## MJD31T4G
designator Q?
Complementary Power Transistor, 3-Pin DPAK, Pb-Free, Tape and Reel; Manufacturer: On Semiconductor; PartNumber: MJD31T4G; fT Min (MHz): 3; Polarity: NPN; DatasheetVersion: Rev. 13; PackageVersion: Rev. E, 02/2014; PackageReference: DPAK-3-369C-01; PackageDescription: 3-Pin Flange Mount, Body 6.54 x 6.095 mm, Pitch 2.29 mm; Supplier 1: Digi-Key; Supplier Part Number 1: MJD31T4GOSTR-ND; Supplier 2: Digi-Key; Supplier Part Number 2: MJD31T4GOSCT-ND; Supplier 3: Digi-Key; Supplier Part Number 3: MJD31T4GOSDKR-ND; Supplier 4: Newark; Supplier Part Number 4: 71J5849; Supplier 5: Mouser; Supplier Part Number 5: 863-MJD31T4G; IC Continuous (A): 3; Packing: Tape and Reel; RoHS: TRUE; Mounting Technology: Surface Mount; ComponentLink1Description: Manufacturer URL; ComponentLink1URL: http://www.onsemi.com/; ComponentLink2Description: Datasheet; ComponentLink2URL: http://www.onsemi.cn/pub_link/Collateral/MJD31-D.PDF; ComponentLink3Description: Package Specification; ComponentLink3URL: http://www.onsemi.cn/pub_link/Collateral/369C.PDF
footprint ONSC-DPAK-3-369C-01_V (DPAK, 3-Leads, Body 6.54x6.095mm, Pitch 2.29mm)
pins: 1 B, 3 E, 4 C

## MJD32C
designator Q?
Complementary Power Transistor, 3-Pin DPAK, Tube; Manufacturer: On Semiconductor; PartNumber: MJD32C; Note: 0; fT Min (MHz): 3; Polarity: PNP; DatasheetVersion: Rev. 13; PackageVersion: Rev. E, 02/2014; PackageReference: DPAK-3-369C-01; PackageDescription: 3-Pin Flange Mount, Body 6.54 x 6.095 mm, Pitch 2.29 mm; IC Continuous (A): 3; Packing: Tube; RoHS: FALSE; Mounting Technology: Surface Mount; ComponentLink1Description: Manufacturer URL; ComponentLink1URL: http://www.onsemi.com/; ComponentLink2Description: Datasheet; ComponentLink2URL: http://www.onsemi.cn/pub_link/Collateral/MJD31-D.PDF; ComponentLink3Description: Package Specification; ComponentLink3URL: http://www.onsemi.cn/pub_link/Collateral/369C.PDF
footprint ONSC-DPAK-3-369C-01_V (DPAK, 3-Leads, Body 6.54x6.095mm, Pitch 2.29mm)
pins: 1 B, 3 E, 4 C

## MJD32CG
designator Q?
Complementary Power Transistor, 3-Pin DPAK, Pb-Free, Tube; Manufacturer: On Semiconductor; PartNumber: MJD32CG; fT Min (MHz): 3; Polarity: PNP; DatasheetVersion: Rev. 13; PackageVersion: Rev. E, 02/2014; PackageReference: DPAK-3-369C-01; PackageDescription: 3-Pin Flange Mount, Body 6.54 x 6.095 mm, Pitch 2.29 mm; Supplier 1: Digi-Key; Supplier Part Number 1: MJD32CGOS-ND; Supplier 2: Farnell; Supplier Part Number 2: 9557121; Supplier 3: Farnell; Supplier Part Number 3: 2146545; Supplier 4: Newark; Supplier Part Number 4: 42K1278; Supplier 5: Mouser; Supplier Part Number 5: 863-MJD32CG; IC Continuous (A): 3; Packing: Tube; RoHS: TRUE; Mounting Technology: Surface Mount; ComponentLink1Description: Manufacturer URL; ComponentLink1URL: http://www.onsemi.com/; ComponentLink2Description: Datasheet; ComponentLink2URL: http://www.onsemi.cn/pub_link/Collateral/MJD31-D.PDF; ComponentLink3Description: Package Specification; ComponentLink3URL: http://www.onsemi.cn/pub_link/Collateral/369C.PDF
footprint ONSC-DPAK-3-369C-01_V (DPAK, 3-Leads, Body 6.54x6.095mm, Pitch 2.29mm)
pins: 1 B, 3 E, 4 C

## MJD32CRLG
designator Q?
Complementary Power Transistor, 3-Pin DPAK, Pb-Free, Tape and Reel; Manufacturer: On Semiconductor; PartNumber: MJD32CRLG; fT Min (MHz): 3; Polarity: PNP; DatasheetVersion: Rev. 13; PackageVersion: Rev. E, 02/2014; PackageReference: DPAK-3-369C-01; PackageDescription: 3-Pin Flange Mount, Body 6.54 x 6.095 mm, Pitch 2.29 mm; Supplier 1: Digi-Key; Supplier Part Number 1: MJD32CRLG-ND; Supplier 2: Newark; Supplier Part Number 2: 42K1279; Supplier 3: Mouser; Supplier Part Number 3: 863-MJD32CRLG; IC Continuous (A): 3; Packing: Tape and Reel; RoHS: TRUE; Mounting Technology: Surface Mount; ComponentLink1Description: Manufacturer URL; ComponentLink1URL: http://www.onsemi.com/; ComponentLink2Description: Datasheet; ComponentLink2URL: http://www.onsemi.cn/pub_link/Collateral/MJD31-D.PDF; ComponentLink3Description: Package Specification; ComponentLink3URL: http://www.onsemi.cn/pub_link/Collateral/369C.PDF
footprint ONSC-DPAK-3-369C-01_V (DPAK, 3-Leads, Body 6.54x6.095mm, Pitch 2.29mm)
pins: 1 B, 3 E, 4 C

## MJD32CT4
designator Q?
Complementary Power Transistor, 3-Pin DPAK, Tape and Reel; Manufacturer: On Semiconductor; PartNumber: MJD32CT4; fT Min (MHz): 3; Polarity: PNP; DatasheetVersion: Rev. 13; PackageVersion: Rev. E, 02/2014; PackageReference: DPAK-3-369C-01; PackageDescription: 3-Pin Flange Mount, Body 6.54 x 6.095 mm, Pitch 2.29 mm; Supplier 1: Digi-Key; Supplier Part Number 1: MJD32CT4OSCT-ND; Supplier 2: Digi-Key; Supplier Part Number 2: MJD32CT4OSDKR-ND; IC Continuous (A): 3; Packing: Tape and Reel; RoHS: FALSE; Mounting Technology: Surface Mount; ComponentLink1Description: Manufacturer URL; ComponentLink1URL: http://www.onsemi.com/; ComponentLink2Description: Datasheet; ComponentLink2URL: http://www.onsemi.cn/pub_link/Collateral/MJD31-D.PDF; ComponentLink3Description: Package Specification; ComponentLink3URL: http://www.onsemi.cn/pub_link/Collateral/369C.PDF
footprint ONSC-DPAK-3-369C-01_V (DPAK, 3-Leads, Body 6.54x6.095mm, Pitch 2.29mm)
pins: 1 B, 3 E, 4 C

## MJD32CT4G
designator Q?
Complementary Power Transistor, 3-Pin DPAK, Pb-Free, Tape and Reel; Manufacturer: On Semiconductor; PartNumber: MJD32CT4G; fT Min (MHz): 3; Polarity: PNP; DatasheetVersion: Rev. 13; PackageVersion: Rev. E, 02/2014; PackageReference: DPAK-3-369C-01; PackageDescription: 3-Pin Flange Mount, Body 6.54 x 6.095 mm, Pitch 2.29 mm; Supplier 1: Digi-Key; Supplier Part Number 1: MJD32CT4GOSTR-ND; Supplier 2: Digi-Key; Supplier Part Number 2: MJD32CT4GOSCT-ND; Supplier 3: Digi-Key; Supplier Part Number 3: MJD32CT4GOSDKR-ND; Supplier 4: Farnell; Supplier Part Number 4: 1459087RL; Supplier 5: Newark; Supplier Part Number 5: 45J1490; Supplier 6: Mouser; Supplier Part Number 6: 863-MJD32CT4G; IC Continuous (A): 3; Packing: Tape and Reel; RoHS: TRUE; Mounting Technology: Surface Mount; ComponentLink1Description: Manufacturer URL; ComponentLink1URL: http://www.onsemi.com/; ComponentLink2Description: Datasheet; ComponentLink2URL: http://www.onsemi.cn/pub_link/Collateral/MJD31-D.PDF; ComponentLink3Description: Package Specification; ComponentLink3URL: http://www.onsemi.cn/pub_link/Collateral/369C.PDF
footprint ONSC-DPAK-3-369C-01_V (DPAK, 3-Leads, Body 6.54x6.095mm, Pitch 2.29mm)
pins: 1 B, 3 E, 4 C

## MJD32RLG
designator Q?
Complementary Power Transistor, 3-Pin DPAK, Pb-Free, Tape and Reel; Manufacturer: On Semiconductor; PartNumber: MJD32RLG; fT Min (MHz): 3; Polarity: PNP; DatasheetVersion: Rev. 13; PackageVersion: Rev. E, 02/2014; PackageReference: DPAK-3-369C-01; PackageDescription: 3-Pin Flange Mount, Body 6.54 x 6.095 mm, Pitch 2.29 mm; Supplier 1: Digi-Key; Supplier Part Number 1: MJD32RLG-ND; Supplier 2: Newark; Supplier Part Number 2: 45J1491; Supplier 3: Mouser; Supplier Part Number 3: 863-MJD32RLG; IC Continuous (A): 3; Packing: Tape and Reel; RoHS: TRUE; Mounting Technology: Surface Mount; ComponentLink1Description: Manufacturer URL; ComponentLink1URL: http://www.onsemi.com/; ComponentLink2Description: Datasheet; ComponentLink2URL: http://www.onsemi.cn/pub_link/Collateral/MJD31-D.PDF; ComponentLink3Description: Package Specification; ComponentLink3URL: http://www.onsemi.cn/pub_link/Collateral/369C.PDF
footprint ONSC-DPAK-3-369C-01_V (DPAK, 3-Leads, Body 6.54x6.095mm, Pitch 2.29mm)
pins: 1 B, 3 E, 4 C

## MJD32T4
designator Q?
Complementary Power Transistor, 3-Pin DPAK, Tape and Reel; Manufacturer: On Semiconductor; PartNumber: MJD32T4; Note: 0; fT Min (MHz): 3; Polarity: PNP; DatasheetVersion: Rev. 13; PackageVersion: Rev. E, 02/2014; PackageReference: DPAK-3-369C-01; PackageDescription: 3-Pin Flange Mount, Body 6.54 x 6.095 mm, Pitch 2.29 mm; IC Continuous (A): 3; Packing: Tape and Reel; RoHS: FALSE; Mounting Technology: Surface Mount; ComponentLink1Description: Manufacturer URL; ComponentLink1URL: http://www.onsemi.com/; ComponentLink2Description: Datasheet; ComponentLink2URL: http://www.onsemi.cn/pub_link/Collateral/MJD31-D.PDF; ComponentLink3Description: Package Specification; ComponentLink3URL: http://www.onsemi.cn/pub_link/Collateral/369C.PDF
footprint ONSC-DPAK-3-369C-01_V (DPAK, 3-Leads, Body 6.54x6.095mm, Pitch 2.29mm)
pins: 1 B, 3 E, 4 C

## MJD32T4G
designator Q?
Complementary Power Transistor, 3-Pin DPAK, Pb-Free, Tape and Reel; Manufacturer: On Semiconductor; PartNumber: MJD32T4G; fT Min (MHz): 3; Polarity: PNP; DatasheetVersion: Rev. 13; PackageVersion: Rev. E, 02/2014; PackageReference: DPAK-3-369C-01; PackageDescription: 3-Pin Flange Mount, Body 6.54 x 6.095 mm, Pitch 2.29 mm; Supplier 1: Digi-Key; Supplier Part Number 1: MJD32T4GOSTR-ND; Supplier 2: Digi-Key; Supplier Part Number 2: MJD32T4GOSCT-ND; Supplier 3: Digi-Key; Supplier Part Number 3: MJD32T4GOSDKR-ND; Supplier 4: Newark; Supplier Part Number 4: 71J5850; Supplier 5: Mouser; Supplier Part Number 5: 863-MJD32T4G; IC Continuous (A): 3; Packing: Tape and Reel; RoHS: TRUE; Mounting Technology: Surface Mount; ComponentLink1Description: Manufacturer URL; ComponentLink1URL: http://www.onsemi.com/; ComponentLink2Description: Datasheet; ComponentLink2URL: http://www.onsemi.cn/pub_link/Collateral/MJD31-D.PDF; ComponentLink3Description: Package Specification; ComponentLink3URL: http://www.onsemi.cn/pub_link/Collateral/369C.PDF
footprint ONSC-DPAK-3-369C-01_V (DPAK, 3-Leads, Body 6.54x6.095mm, Pitch 2.29mm)
pins: 1 B, 3 E, 4 C

## MJD41CRL
designator Q?
Complementary Power Transistor, 3-Pin DPAK, Tape and Reel; Manufacturer: On Semiconductor; PartNumber: MJD41CRL; Note: 0; fT Min (MHz): 3; IC Continuous (A): 6; Polarity: NPN; DatasheetVersion: Rev. 12; PackageVersion: Rev. E, 02/2014; PackageReference: DPAK-3-369C-01; PackageDescription: 3-Pin Flange Mount, Body 6.54 x 6.095 mm, Pitch 2.29 mm; Packing: Tape and Reel; RoHS: FALSE; Mounting Technology: Surface Mount; ComponentLink1Description: Manufacturer URL; ComponentLink1URL: http://www.onsemi.com/; ComponentLink2Description: Datasheet; ComponentLink2URL: http://www.onsemi.cn/pub_link/Collateral/MJD41C-D.PDF; ComponentLink3Description: Package Specification; ComponentLink3URL: http://www.onsemi.cn/pub_link/Collateral/369C.PDF
footprint ONSC-DPAK-3-369C-01_V (DPAK, 3-Leads, Body 6.54x6.095mm, Pitch 2.29mm)
pins: 1 B, 3 E, 4 C

## MJD41CRLG
designator Q?
Complementary Power Transistor, 3-Pin DPAK, Pb-Free, Tape and Reel; Manufacturer: On Semiconductor; PartNumber: MJD41CRLG; fT Min (MHz): 3; IC Continuous (A): 6; Polarity: NPN; DatasheetVersion: Rev. 12; PackageVersion: Rev. E, 02/2014; PackageReference: DPAK-3-369C-01; PackageDescription: 3-Pin Flange Mount, Body 6.54 x 6.095 mm, Pitch 2.29 mm; Supplier 1: Digi-Key; Supplier Part Number 1: MJD41CRLGOSTR-ND; Supplier 2: Digi-Key; Supplier Part Number 2: MJD41CRLGOSCT-ND; Supplier 3: Newark; Supplier Part Number 3: 71J5853; Supplier 4: Mouser; Supplier Part Number 4: 863-MJD41CRLG; Packing: Tape and Reel; RoHS: TRUE; Mounting Technology: Surface Mount; ComponentLink1Description: Manufacturer URL; ComponentLink1URL: http://www.onsemi.com/; ComponentLink2Description: Datasheet; ComponentLink2URL: http://www.onsemi.cn/pub_link/Collateral/MJD41C-D.PDF; ComponentLink3Description: Package Specification; ComponentLink3URL: http://www.onsemi.cn/pub_link/Collateral/369C.PDF
footprint ONSC-DPAK-3-369C-01_V (DPAK, 3-Leads, Body 6.54x6.095mm, Pitch 2.29mm)
pins: 1 B, 3 E, 4 C

## MJD41CT4
designator Q?
Complementary Power Transistor, 3-Pin DPAK, Tape and Reel; Manufacturer: On Semiconductor; PartNumber: MJD41CT4; fT Min (MHz): 3; IC Continuous (A): 6; Polarity: NPN; DatasheetVersion: Rev. 12; PackageVersion: Rev. E, 02/2014; PackageReference: DPAK-3-369C-01; PackageDescription: 3-Pin Flange Mount, Body 6.54 x 6.095 mm, Pitch 2.29 mm; Supplier 1: Digi-Key; Supplier Part Number 1: MJD41CT4OSCT-ND; Supplier 2: Digi-Key; Supplier Part Number 2: MJD41CT4OSDKR-ND; Packing: Tape and Reel; RoHS: FALSE; Mounting Technology: Surface Mount; ComponentLink1Description: Manufacturer URL; ComponentLink1URL: http://www.onsemi.com/; ComponentLink2Description: Datasheet; ComponentLink2URL: http://www.onsemi.cn/pub_link/Collateral/MJD41C-D.PDF; ComponentLink3Description: Package Specification; ComponentLink3URL: http://www.onsemi.cn/pub_link/Collateral/369C.PDF
footprint ONSC-DPAK-3-369C-01_V (DPAK, 3-Leads, Body 6.54x6.095mm, Pitch 2.29mm)
pins: 1 B, 3 E, 4 C